# EAGLE library part AT42QT1040 (library AT42QT1040)
Four-key QTouch® Touch Sensor IC
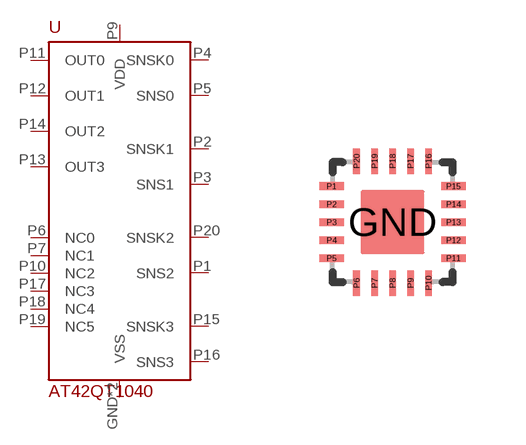
[diagram p0: symbol with the pads of VQFN20; footprint VQFN20]

Designator prefix U

## AT42QT1040  [VQFN20]
GND  VSS  pwr
P1  SNS2
P2  SNSK1
P3  SNS1
P4  SNSK0
P5  SNS0
P6  NC0  nc
P7  NC1  nc
P8  VSS  pwr
P9  VDD  pwr
P10  NC2  nc
P11  OUT0
P12  OUT1
P13  OUT3
P14  OUT2
P15  SNSK3
P16  SNS3
P17  NC3  nc
P18  NC4  nc
P19  NC5  nc
P20  SNSK2

## Footprint VQFN20 (pad centres in mm)
smd 1.6 x 1.6: GND 0,0
smd 0.65 x 0.2: P1 -1.525,0.9; P2 -1.525,0.45; P3 -1.525,0; P4 -1.525,-0.45; P5 -1.525,-0.9; P11 1.525,-0.9; P12 1.525,-0.45; P13 1.525,0; P14 1.525,0.45; P15 1.525,0.9
smd 0.2 x 0.65: P6 -0.9,-1.525; P7 -0.45,-1.525; P8 0,-1.525; P9 0.45,-1.525; P10 0.9,-1.525; P16 0.9,1.525; P17 0.45,1.525; P18 0,1.525; P19 -0.45,1.525; P20 -0.9,1.525